# Altium footprint library drone_pcb1.PcbLib: 55 footprints (part 4 of 4)
Each footprint in its own frame and in the unit in brackets; x right, y up, seen from the top. Pads: shape width x height; smd on the part's side, far side on the other; paste and mask are expansions set on the pad; w line width, h text height; cw(c..) or ccw(c..) is an arc to the next point about the centre after c.
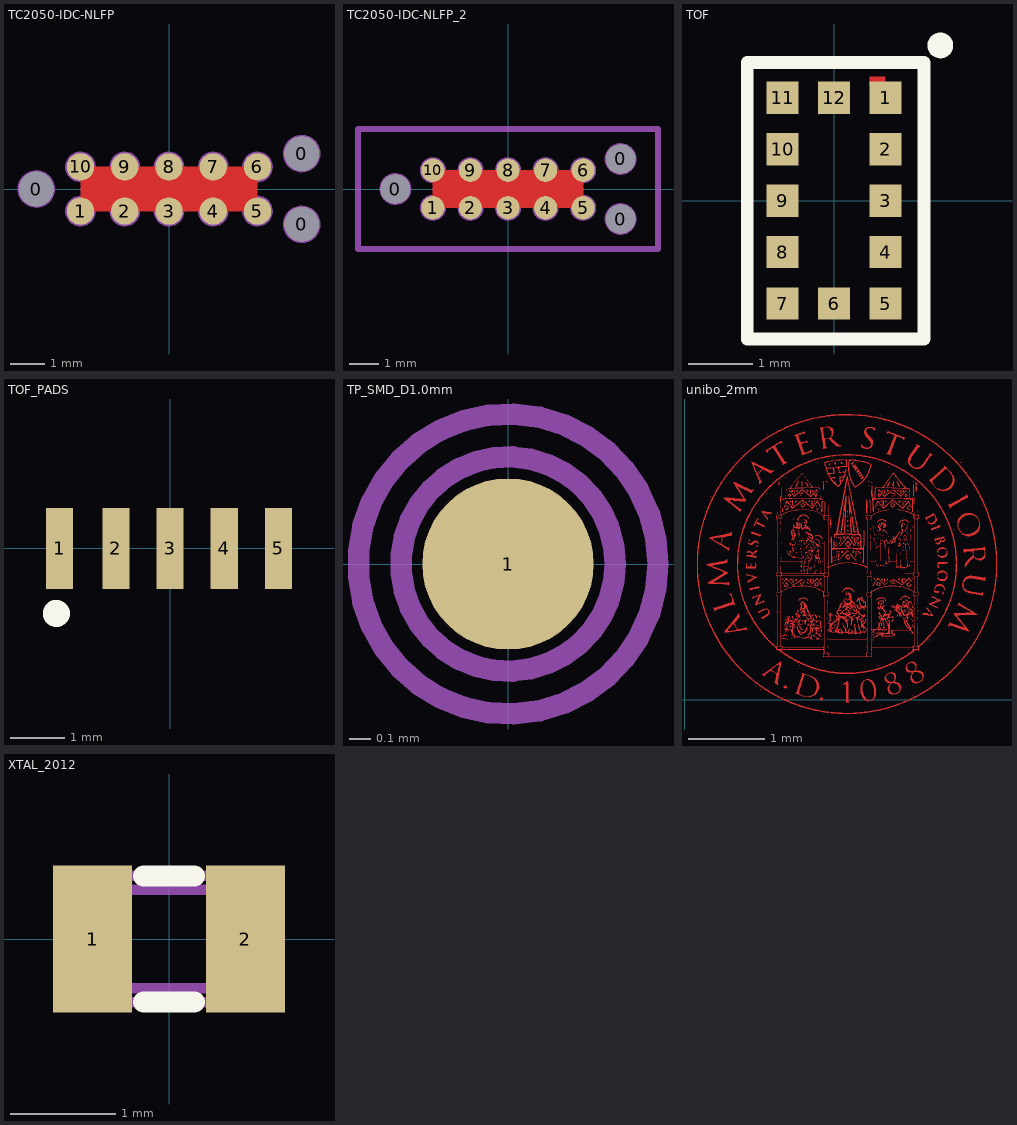
[diagram p3: the footprints below, top view; thin cyan lines are the x and y axes]

## TC2050-IDC-NLFP [mil]
pads (13):
  round 39 hole 39 unplated mask+3: 0(-150,0) 0(150,-40) 0(150,40)
  round 31 smd paste-196.85: 1(-100,-25) 2(-50,-25) 3(0,-25) 4(50,-25) 5(100,-25) 6(100,25) 7(50,25) 8(0,25) 9(-50,25) 10(-100,25)
Top Layer:
  pour cut-out: -100,25 -100,-25 100,-25 100,25
Mechanical 7:
  circle w3.94: c-100,24.99 r15.45
  circle w3.94: c-100,-24.99 r15.45
  circle w3.94: c-50,-24.99 r15.45
  circle w3.94: c0,-24.99 r15.45
  circle w3.94: c0,24.99 r15.45
  circle w3.94: c-50,24.99 r15.45
  circle w3.94: c50,24.99 r15.45
  circle w3.94: c50,-24.99 r15.45
  circle w3.94: c100,-24.99 r15.45
  circle w3.94: c100,24.99 r15.45
  circle w3.94: c150,-39.98 r19.26
  circle w3.94: c150,39.98 r19.26
  circle w3.94: c-150,0 r19.26
Mechanical 8:
  circle w3.94: c-150,0 r19.26
  circle w3.94: c150,39.98 r19.26
  circle w3.94: c150,-39.98 r19.26

## TC2050-IDC-NLFP_2 [mil]
pads (13):
  round 39 hole 39 unplated mask+3: 0(-150,0) 0(150,-40) 0(150,40)
  round 31 smd paste-196.85: 1(-100,-25) 2(-50,-25) 3(0,-25) 4(50,-25) 5(100,-25) 6(100,25) 7(50,25) 8(0,25) 9(-50,25) 10(-100,25)
Top Layer:
  pour cut-out: -100,25 -100,-25 100,-25 100,25
Mechanical 7:
  circle w3.94: c-100,24.99 r15.45
  circle w3.94: c-100,-24.99 r15.45
  circle w3.94: c-50,-24.99 r15.45
  circle w3.94: c0,-24.99 r15.45
  circle w3.94: c0,24.99 r15.45
  circle w3.94: c-50,24.99 r15.45
  circle w3.94: c50,24.99 r15.45
  circle w3.94: c50,-24.99 r15.45
  circle w3.94: c100,-24.99 r15.45
  circle w3.94: c100,24.99 r15.45
  circle w3.94: c150,-39.98 r19.26
  circle w3.94: c150,39.98 r19.26
  circle w3.94: c-150,0 r19.26
Mechanical 8:
  circle w3.94: c-150,0 r19.26
  circle w3.94: c150,39.98 r19.26
  circle w3.94: c150,-39.98 r19.26
Mechanical 15:
  lines w7.87: -199.8,-79.92 -199.8,79.92 199.8,79.92 199.8,-79.92 -199.8,-79.92

## TOF [mm]
pads (12):
  rect 0.5x0.5 smd: 1(0.8,1.6) 2(0.8,0.8) 3(0.8,0) 4(0.8,-0.8) 5(0.8,-1.6) 6(0,-1.6) 7(-0.8,-1.6) 8(-0.8,-0.8) 9(-0.8,0) 10(-0.8,0.8) 11(-0.8,1.6) 12(0,1.6)
Top Layer:
  rectangle: 0.55,1.8 0.8,1.93
Top Overlay:
  circle w0.2: c1.651,2.413 r0.1
  lines w0.2: -1.35,-2.15 1.4,-2.15 1.4,2.15 -1.35,2.15 -1.35,-2.15
3D body: height 1.6, standoff 0, extent -1.349,-2.425 1.399,2.4

## TOF_PADS [mm]
pads (5):
  rect 0.5x1.5 smd: 1(-2.04,0) 2(-1,0) 3(0,0) 4(1,0) 5(2,0)
Top Overlay:
  circle w0.25: c-2.1,-1.2 r0.125

## TP_SMD_D1.0mm [mm] "Test point - pad 1.0mm"
height 9
pads (1):
  round 0.8 smd paste-5: 1(0,0)
Mechanical 7:
  circle w0.1: c0,0 r0.7
  circle w0.1: c0,0 r0.5
  text ".Designator" at -0.9,-1.523 h0.3

## unibo_2mm [mm] "Logo ETH Zurich"
height 15
Top Layer:
  drawing of 573 lines, arcs and shapes, not listed

## XTAL_2012 [mm]
pads (2):
  rect 0.75x1.4 smd: 1(-0.725,0) 2(0.725,0)
Top Overlay:
  lines w0.2: -0.24,-0.6 0.24,-0.6 ; -0.24,0.6 0.24,0.6
Mechanical 7:
  lines w0.1: -1,-0.5 cw(c-1,-0.6) -0.9,-0.6 0.9,-0.6 cw(c1,-0.6) 1,-0.5 1,0.5 cw(c1,0.6) 0.9,0.6 -0.9,0.6 cw(c-1,0.6) -1,0.5 -1,-0.5 ; -0.87,-0.37 ccw(c-0.77,-0.37) -0.77,-0.47 0.77,-0.47 ccw(c0.77,-0.37) 0.87,-0.37 0.87,0.37 ccw(c0.77,0.37) 0.77,0.47 -0.77,0.47 ccw(c-0.77,0.37) -0.87,0.37 -0.87,-0.37
  text ".Designator" at -0.7,-0.2 h0.38
3D body "User Library-ABS06.STEP": height 0.6, standoff 0, extent -1,-0.61 1,0.61
3D body: height 0.6, standoff 0.15, extent -0.825,-0.4 0.825,0.4